# Altium schematic symbol library Lamps+antenna.SchLib: 6 symbols
Pins are listed as number, name and electrical type; pins without a type are passive.

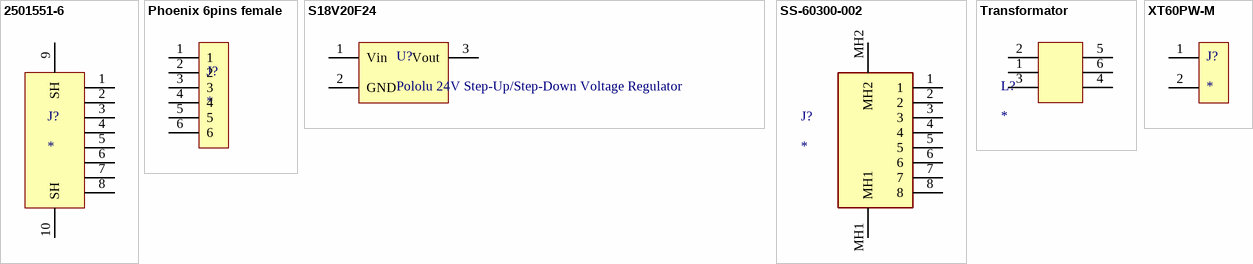
[diagram p0: symbols 2501551-6 to XT60PW-M]

## 2501551-6
designator J?
footprint 2501551-6
pins: 1, 2, 3, 4, 5, 6, 7, 8, 9 SH, 10 SH

## Phoenix 6pins female
designator J?
footprint Phoenix 6pins female
pins: 1, 2, 3, 4, 5, 6

## S18V20F24
designator U?, comment Pololu 24V Step-Up/Step-Down Voltage Regulator
footprint S18V20F12; pin to pad 1>Vin 2>GND 3>Vout
pins: 1 Vin, 2 GND, 3 Vout

## SS-60300-002
designator J?
Connector; Manufacturer_Name: BelFuse; Manufacturer_Part_Number: SS-60300-002; Datasheet Link: https://www.belfuse.com/resources/drawings/stewartconnector/dr-stw-ss-60300-002.pdf; Height: 16.04mm; Mouser Part Number: 530-SS-60300-002; Mouser Price/Stock: https://www.mouser.co.uk/ProductDetail/Stewart-Connector-Bel/SS-60300-002?qs=FESYatJ8odKSXE%252BbXt4G%252BQ%3D%3D; Arrow Part Number: SS-60300-002; Arrow Price/Stock: https://www.arrow.com/en/products/ss-60300-002/stewart-connector-systems?utm_currency=USD&region=nac
footprint SS60300002
pins: 1, 2, 3, 4, 5, 6, 7, 8, MH1, MH2

## Transformator
designator L?
footprint Transformator
pins: 1, 2, 3, 4, 5, 6

## XT60PW-M
designator J?
footprint XT60PW-M
pins: 1, 2